# EAGLE library part 2.5W-TDD (library hqc-communication)
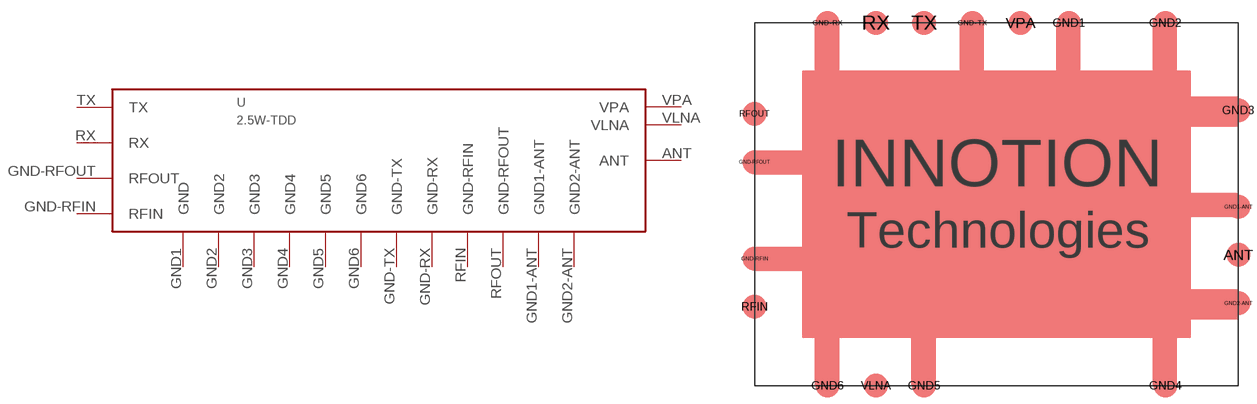
[diagram p0: symbol with the pads of 2.5W-TDD; footprint 2.5W-TDD]

Designator prefix -

## 2.5W-TDD  [2.5W-TDD]
ANT  ANT  out
GND1  GND  pwr
GND1-ANT  GND1-ANT  pwr
GND2  GND2  pwr
GND2-ANT  GND2-ANT  pwr
GND3  GND3  pwr
GND4  GND4  pwr
GND5  GND5  pwr
GND6  GND6  pwr
GND-RFIN  RFIN  out
GND-RFOUT  RFOUT  in
GND-RX  GND-RX  pwr
GND-TX  GND-TX  pwr
RFIN  GND-RFIN  pwr
RFOUT  GND-RFOUT  pwr
RX  RX
TX  TX
VLNA  VLNA  pwr
VPA  VPA  pwr

## Footprint 2.5W-TDD (pad centres in mm)
smd 2 x 2: ANT 40.1,10.85; GND1 26.05,30.1; GND1-ANT 40.1,14.85; GND2 34.05,30.1; GND2-ANT 40.1,6.85; GND3 40.1,22.85; GND4 34.05,0; GND5 14.05,0; GND6 6.05,0; GND-RFIN 0,10.55; GND-RFOUT 0,18.55; GND-RX 6.05,30.1; GND-TX 18.05,30.1; RFIN 0,6.55; RFOUT 0,22.55; RX 10.05,30.1; TX 14.05,30.1; VLNA 10.05,0; VPA 22.05,30.1